# EAGLE library part TLV62084DSGR (library Joule Expansion Board)
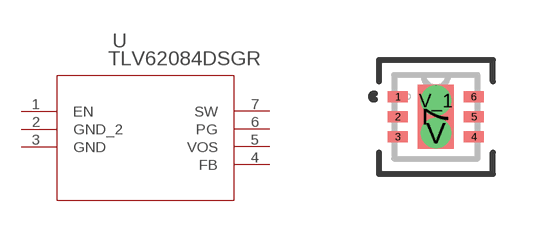
[diagram p5: symbol with the pads of DSG8_0P9X1P6; footprint DSG8_0P9X1P6]

Designator prefix U

## TLV62084DSGR (MANUFACTURER_PART_NUMBER: tlv62084dsgr; VENDOR: Texas Instruments)  [DSG8_0P9X1P6]
1  EN  in
2  GND_2  pwr
3  GND  pwr
4  FB  in
5  VOS  in
6  PG  out
7  SW  pas

## Footprint DSG8_0P9X1P6 (pad centres in mm)
smd 0.5 x 0.28: 1 -0.95,0.5; 2 -0.95,0; 3 -0.95,-0.5; 4 0.95,-0.5; 5 0.95,0; 6 0.95,0.5
smd 0.9 x 1.6: 7 0,0
drill 0.254 pad 0.508: V 0,-0.406; V_1 0,0.406